# Altium footprint library HyTechDevices.PCBLIB: 298 footprints (part 19 of 19)
Each footprint in its own frame and in the unit in brackets; x right, y up, seen from the top. Pads: shape width x height; smd on the part's side, far side on the other; paste and mask are expansions set on the pad; w line width, h text height; cw(c..) or ccw(c..) is an arc to the next point about the centre after c.
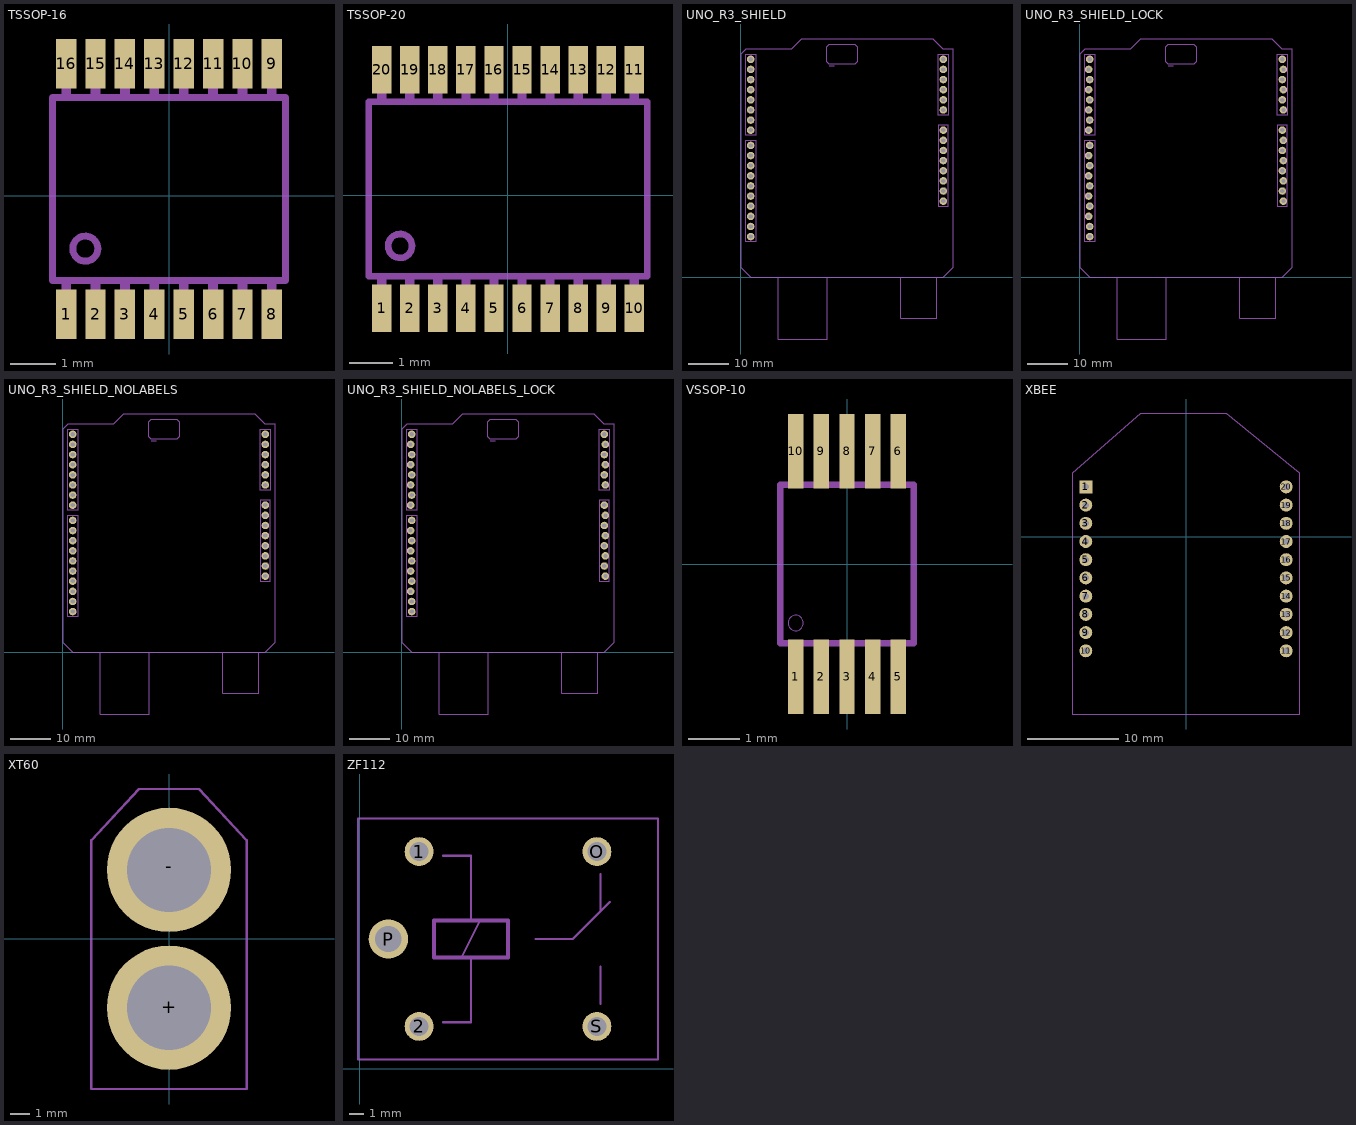
[diagram p18: the footprints below, top view; thin cyan lines are the x and y axes]

## TSSOP-16 [mil]
pads (16):
  rect 17.72x43.31 smd: 1(-89.57,-103.06) 2(-63.98,-103.06) 3(-38.39,-103.06) 4(-12.8,-103.06) 5(12.8,-103.06) 6(38.39,-103.06) 7(63.98,-103.06) 8(89.57,-103.06) 9(89.57,114.87) 10(63.98,114.87) 11(38.39,114.87) 12(12.8,114.87) 13(-12.8,114.87) 14(-38.39,114.87) 15(-63.98,114.87) 16(-89.57,114.87)
Mechanical 3:
  region: -93.57,-111.06 -93.57,-76.77 -85.57,-76.77 -85.57,-111.06
  region: -67.98,-111.06 -67.98,-76.77 -59.98,-76.77 -59.98,-111.06
  region: -42.39,-111.06 -42.39,-76.77 -34.39,-76.77 -34.39,-111.06
  region: -16.8,-111.06 -16.8,-76.77 -8.8,-76.77 -8.8,-111.06
  region: 8.8,-111.06 8.8,-76.77 16.8,-76.77 16.8,-111.06
  region: 34.39,-111.06 34.39,-76.77 42.39,-76.77 42.39,-111.06
  region: 59.98,-111.06 59.98,-76.77 67.98,-76.77 67.98,-111.06
  region: 85.57,-111.06 85.57,-76.77 93.57,-76.77 93.57,-111.06
  region: 85.57,88.58 85.57,122.87 93.57,122.87 93.57,88.58
  region: 59.98,88.58 59.98,122.87 67.98,122.87 67.98,88.58
  region: 34.39,88.58 34.39,122.87 42.39,122.87 42.39,88.58
  region: 8.8,88.58 8.8,122.87 16.8,122.87 16.8,88.58
  region: -16.8,88.58 -16.8,122.87 -8.8,122.87 -8.8,88.58
  region: -42.39,88.58 -42.39,122.87 -34.39,122.87 -34.39,88.58
  region: -67.98,88.58 -67.98,122.87 -59.98,122.87 -59.98,88.58
  region: -93.57,88.58 -93.57,122.87 -85.57,122.87 -85.57,88.58
Mechanical 7:
  circle w6: c-72.86,-46.03 r10.92
  lines w6: -101.38,-73.82 101.38,-73.82 101.38,85.63 -101.38,85.63 -101.38,-73.82

## TSSOP-20 [mil]
pads (20):
  rect 17.72x43.31 smd: 1(-115.16,-103.06) 2(-89.57,-103.06) 3(-63.98,-103.06) 4(-38.39,-103.06) 5(-12.8,-103.06) 6(12.8,-103.06) 7(38.39,-103.06) 8(63.98,-103.06) 9(89.57,-103.06) 10(115.16,-103.06) 11(115.16,114.87) 12(89.57,114.87) 13(63.98,114.87) 14(38.39,114.87) 15(12.8,114.87) 16(-12.8,114.87) 17(-38.39,114.87) 18(-63.98,114.87) 19(-89.57,114.87) 20(-115.16,114.87)
Mechanical 3:
  region: -119.16,-111.06 -119.16,-76.77 -111.16,-76.77 -111.16,-111.06
  region: -93.57,-111.06 -93.57,-76.77 -85.57,-76.77 -85.57,-111.06
  region: -67.98,-111.06 -67.98,-76.77 -59.98,-76.77 -59.98,-111.06
  region: -42.39,-111.06 -42.39,-76.77 -34.39,-76.77 -34.39,-111.06
  region: -16.8,-111.06 -16.8,-76.77 -8.8,-76.77 -8.8,-111.06
  region: 8.8,-111.06 8.8,-76.77 16.8,-76.77 16.8,-111.06
  region: 34.39,-111.06 34.39,-76.77 42.39,-76.77 42.39,-111.06
  region: 59.98,-111.06 59.98,-76.77 67.98,-76.77 67.98,-111.06
  region: 85.57,-111.06 85.57,-76.77 93.57,-76.77 93.57,-111.06
  region: 111.16,-111.06 111.16,-76.77 119.16,-76.77 119.16,-111.06
  region: 111.16,88.58 111.16,122.87 119.16,122.87 119.16,88.58
  region: 85.57,88.58 85.57,122.87 93.57,122.87 93.57,88.58
  region: 59.98,88.58 59.98,122.87 67.98,122.87 67.98,88.58
  region: 34.39,88.58 34.39,122.87 42.39,122.87 42.39,88.58
  region: 8.8,88.58 8.8,122.87 16.8,122.87 16.8,88.58
  region: -16.8,88.58 -16.8,122.87 -8.8,122.87 -8.8,88.58
  region: -42.39,88.58 -42.39,122.87 -34.39,122.87 -34.39,88.58
  region: -67.98,88.58 -67.98,122.87 -59.98,122.87 -59.98,88.58
  region: -93.57,88.58 -93.57,122.87 -85.57,122.87 -85.57,88.58
  region: -119.16,88.58 -119.16,122.87 -111.16,122.87 -111.16,88.58
Mechanical 7:
  circle w6: c-98.45,-46.03 r10.92
  lines w6: -126.97,-73.82 126.97,-73.82 126.97,85.63 -126.97,85.63 -126.97,-73.82

## UNO_R3_SHIELD [mil]
pads (32):
  round 74 hole 40: 3.3V(2000,1050) 5V(2000,1150) A0(2000,1650) A1(2000,1750) A2(2000,1850) A3(2000,1950) A4(2000,2050) A5(2000,2150) AREF(100,600) D2(100,1950) D3(100,1850) D4(100,1750) D5(100,1650) D6(100,1550) D7(100,1450) D8(100,1300) D9(100,1200) D10(100,1100) D11(100,1000) D12(100,900) D13(100,800) GND@0(2000,1250) GND@1(2000,1350) GND@2(100,700) IOREF(2000,850) NC(2000,750) RES(2000,950) RX(100,2150) SCL(100,400) SDA(100,500) TX(100,2050) VIN(2000,1450)
Mechanical 3:
  lines w5: 50,350 150,350 150,1350 50,1350 50,350 ; 50,1400 150,1400 150,2200 50,2200 50,1400 ; 1950,700 2050,700 2050,1500 1950,1500 1950,700 ; 1950,1600 2050,1600 2050,2200 1950,2200 1950,1600
  lines w8: 875,2080 925,2080
  lines w10: 1582.68,-3.94 1582.68,-405.51 1937.01,-405.51 1937.01,-3.94 ; 374.02,0 100,0 0,100 0,2200 50,2250 500,2250 600,2350 1900,2350 2000,2250 2100,2250 2100,100 2000,0 854.33,0 ; 374.02,0 854.33,0 ; 374.02,0 374.02,-610.24 854.33,-610.24 854.33,0 ; 850,2125 875,2100 1125,2100 1150,2125 1150,2275 1125,2300 875,2300 850,2275 850,2125
  text "RST" at 1075,2065 h17
  text "ISP" at 980,2190 h17
Mechanical 7:
  text "GND" at 1945.5,1270 h34
  text "GND" at 1945.5,1370 h34
  text "+5V" at 1945.5,1170 h34
  text "RST" at 1945.5,970 h34
  text "VIN" at 1945.5,1470 h34
  text "+3.3V" at 1945.5,1070 h34
  text "0" at 1945.5,1670 h34
  text "1" at 1945.5,1770 h34
  text "2" at 1945.5,1870 h34
  text "3" at 1945.5,1970 h34
  text "4" at 1945.5,2070 h34
  text "5" at 1945.5,2170 h34
  text "Analog In" at 1845.5,2055 h34
  text "GND" at 150,680 h34
  text "13" at 150,780 h34
  text "12" at 150,880 h34
  text "11" at 150,980 h34
  text "AREF" at 150,580 h34
  text "10" at 150,1080 h34
  text "9" at 150,1180 h34
  text "8" at 150,1280 h34
  text "7" at 150,1430 h34
  text "6" at 150,1530 h34
  text "5" at 150,1630 h34
  text "4" at 150,1730 h34
  text "3" at 150,1830 h34
  text "2" at 150,1930 h34
  text "TX" at 150,2030 h34
  text "RX" at 150,2130 h34
  text "SDA" at 150,480 h34
  text "SCL" at 150,380 h34
  text "IOREF" at 1945.5,870 h34

## UNO_R3_SHIELD_LOCK [mil]
pads (32):
  round 74 hole 40: 3.3V(2000,1050) 5V(2010,1150) A0(2010,1650) A1(2000,1750) A2(2010,1850) A3(2000,1950) A4(2010,2050) A5(2000,2150) AREF(90,600) D2(100,1950) D3(90,1850) D4(100,1750) D5(90,1650) D6(100,1550) D7(90,1450) D8(100,1300) D9(90,1200) D10(100,1100) D11(90,1000) D12(100,900) D13(90,800) GND@0(2000,1250) GND@1(2010,1350) GND@2(100,700) IOREF(2000,850) NC(2010,750) RES(2010,950) RX(100,2150) SCL(100,400) SDA(100,500) TX(90,2050) VIN(2000,1450)
Mechanical 3:
  lines w5: 50,350 150,350 150,1350 50,1350 50,350 ; 50,1400 150,1400 150,2200 50,2200 50,1400 ; 1950,700 2050,700 2050,1500 1950,1500 1950,700 ; 1950,1600 2050,1600 2050,2200 1950,2200 1950,1600
  lines w8: 875,2080 925,2080
  lines w10: 1582.68,-3.94 1582.68,-405.51 1937.01,-405.51 1937.01,-3.94 ; 374.02,0 100,0 0,100 0,2200 50,2250 500,2250 600,2350 1900,2350 2000,2250 2100,2250 2100,100 2000,0 854.33,0 ; 374.02,0 854.33,0 ; 374.02,0 374.02,-610.24 854.33,-610.24 854.33,0 ; 850,2125 875,2100 1125,2100 1150,2125 1150,2275 1125,2300 875,2300 850,2275 850,2125
  text "RST" at 1075,2065 h17
  text "ISP" at 980,2190 h17
Mechanical 7:
  text "GND" at 1945.5,1270 h34
  text "GND" at 1945.5,1370 h34
  text "+5V" at 1945.5,1170 h34
  text "RST" at 1945.5,970 h34
  text "VIN" at 1945.5,1470 h34
  text "+3.3V" at 1945.5,1070 h34
  text "0" at 1945.5,1670 h34
  text "1" at 1945.5,1770 h34
  text "2" at 1945.5,1870 h34
  text "3" at 1945.5,1970 h34
  text "4" at 1945.5,2070 h34
  text "5" at 1945.5,2170 h34
  text "Analog In" at 1845.5,2055 h34
  text "GND" at 150,680 h34
  text "13" at 150,780 h34
  text "12" at 150,880 h34
  text "11" at 150,980 h34
  text "AREF" at 150,580 h34
  text "10" at 150,1080 h34
  text "9" at 150,1180 h34
  text "8" at 150,1280 h34
  text "7" at 150,1430 h34
  text "6" at 150,1530 h34
  text "5" at 150,1630 h34
  text "4" at 150,1730 h34
  text "3" at 150,1830 h34
  text "2" at 150,1930 h34
  text "TX" at 150,2030 h34
  text "RX" at 150,2130 h34
  text "SDA" at 150,480 h34
  text "SCL" at 150,380 h34
  text "IOREF" at 1945.5,870 h34

## UNO_R3_SHIELD_NOLABELS [mil]
pads (32):
  round 74 hole 40: 3.3V(2000,1050) 5V(2000,1150) A0(2000,1650) A1(2000,1750) A2(2000,1850) A3(2000,1950) A4(2000,2050) A5(2000,2150) AREF(100,600) D2(100,1950) D3(100,1850) D4(100,1750) D5(100,1650) D6(100,1550) D7(100,1450) D8(100,1300) D9(100,1200) D10(100,1100) D11(100,1000) D12(100,900) D13(100,800) GND@0(2000,1250) GND@1(2000,1350) GND@2(100,700) IOREF(2000,850) NC(2000,750) RES(2000,950) RX(100,2150) SCL(100,400) SDA(100,500) TX(100,2050) VIN(2000,1450)
Mechanical 3:
  lines w5: 50,350 150,350 150,1350 50,1350 50,350 ; 50,1400 150,1400 150,2200 50,2200 50,1400 ; 1950,700 2050,700 2050,1500 1950,1500 1950,700 ; 1950,1600 2050,1600 2050,2200 1950,2200 1950,1600
  lines w8: 875,2080 925,2080
  lines w10: 1582.68,-3.94 1582.68,-405.51 1937.01,-405.51 1937.01,-3.94 ; 374.02,0 100,0 0,100 0,2200 50,2250 500,2250 600,2350 1900,2350 2000,2250 2100,2250 2100,100 2000,0 854.33,0 ; 374.02,0 854.33,0 ; 374.02,0 374.02,-610.24 854.33,-610.24 854.33,0 ; 850,2125 875,2100 1125,2100 1150,2125 1150,2275 1125,2300 875,2300 850,2275 850,2125
  text "RST" at 1075,2065 h17
  text "ISP" at 980,2190 h31

## UNO_R3_SHIELD_NOLABELS_LOCK [mil]
pads (32):
  round 74 hole 40: 3.3V(2000,1050) 5V(2010,1150) A0(2010,1650) A1(2000,1750) A2(2010,1850) A3(2000,1950) A4(2010,2050) A5(2000,2150) AREF(90,600) D2(100,1950) D3(90,1850) D4(100,1750) D5(90,1650) D6(100,1550) D7(90,1450) D8(100,1300) D9(90,1200) D10(100,1100) D11(90,1000) D12(100,900) D13(90,800) GND@0(2000,1250) GND@1(2010,1350) GND@2(100,700) IOREF(2000,850) NC(2010,750) RES(2010,950) RX(100,2150) SCL(100,400) SDA(100,500) TX(90,2050) VIN(2000,1450)
Mechanical 3:
  lines w5: 50,350 150,350 150,1350 50,1350 50,350 ; 50,1400 150,1400 150,2200 50,2200 50,1400 ; 1950,700 2050,700 2050,1500 1950,1500 1950,700 ; 1950,1600 2050,1600 2050,2200 1950,2200 1950,1600
  lines w8: 875,2080 925,2080
  lines w10: 1582.68,-3.94 1582.68,-405.51 1937.01,-405.51 1937.01,-3.94 ; 374.02,0 100,0 0,100 0,2200 50,2250 500,2250 600,2350 1900,2350 2000,2250 2100,2250 2100,100 2000,0 854.33,0 ; 374.02,0 854.33,0 ; 374.02,0 374.02,-610.24 854.33,-610.24 854.33,0 ; 850,2125 875,2100 1125,2100 1150,2125 1150,2275 1125,2300 875,2300 850,2275 850,2125
  text "RST" at 1075,2065 h17
  text "ISP" at 980,2190 h17

## VSSOP-10 [mm]
pads (10):
  rect 0.3x1.45 smd: 1(-1,-2.2) 2(-0.5,-2.2) 3(0,-2.2) 4(0.5,-2.2) 5(1,-2.2) 6(1,2.2) 7(0.5,2.2) 8(0,2.2) 9(-0.5,2.2) 10(-1,2.2)
Mechanical 3:
  circle w0: c-1,-1.15 r0.15
  region: -0.625,1.6 -0.625,2.5 -0.375,2.5 -0.375,1.6
  region: -0.125,1.6 -0.125,2.5 0.125,2.5 0.125,1.6
  region: 0.375,1.6 0.375,2.5 0.625,2.5 0.625,1.6
  region: -1.125,-2.4 -1.125,-1.6 -0.875,-1.6 -0.875,-2.4
  region: -0.625,-2.4 -0.625,-1.6 -0.375,-1.6 -0.375,-2.4
  region: -0.125,-2.4 -0.125,-1.6 0.125,-1.6 0.125,-2.4
  region: 0.375,-2.4 0.375,-1.6 0.625,-1.6 0.625,-2.4
  region: 0.875,1.6 0.875,2.5 1.125,2.5 1.125,1.6
  region: 0.875,-2.4 0.875,-1.6 1.125,-1.6 1.125,-2.4
Mechanical 7:
  region: -1.125,1.6 -1.125,2.5 -0.875,2.5 -0.875,1.6
  lines w0.127: -1.3,-1.55 1.3,-1.55 1.3,1.55 -1.3,1.55 -1.3,-1.55

## XBEE [mil]
pads (20):
  rect 56x56 / inner round 51.74 / far side rect 56x56 hole 27.56: 1(-433.07,216.54)
  round 56 hole 27.56: 2(-433.07,137.8) 3(-433.07,59.06) 4(-433.07,-19.69) 5(-433.07,-98.43) 6(-433.07,-177.17) 7(-433.07,-255.91) 8(-433.07,-334.65) 9(-433.07,-413.39) 10(-433.07,-492.13) 11(433.07,-492.13) 12(433.07,-413.39) 13(433.07,-334.65) 14(433.07,-255.91) 15(433.07,-177.17) 16(433.07,-98.43) 17(433.07,-19.69) 18(433.07,59.06) 19(433.07,137.8) 20(433.07,216.54)
Mechanical 7:
  lines w5: -492.13,-765.35 492.13,-765.35 492.13,275.59 177.17,531.5 -196.85,531.5 -492.13,275.59 -492.13,-765.35

## XT60 [mil]
pads (2):
  round 255.91 hole 173.23: +(0,-141.73) -(0,141.73)
Mechanical 7:
  lines w5: -159.84,-309.06 159.84,-309.06 159.84,202.76 62.01,308.07 -62.01,308.07 -159.84,202.76 -159.84,-309.06

## ZF112 [mil]
pads (5):
  round 78 hole 52: 1(160,586) 2(160,114) O(640,586) S(640,114)
  round 106.5 hole 71: P(77,350)
Mechanical 7:
  lines w6: 225,125 300,125 300,300 ; 225,575 300,575 300,400 ; 275,300 325,400 ; 475,350 575,350 675,450 ; 650,175 650,275 ; 650,425 650,525 ; -5,25 -5,675 805,675 805,25 -5,25
  lines w10: 200,300 200,400 300,400 325,400 400,400 400,300 300,300 275,300 200,300